# Altium schematic symbol library Basic-Logic-Gates-Schlib.SchLib: 7 symbols
Pins are listed as number, name and electrical type; pins without a type are passive.

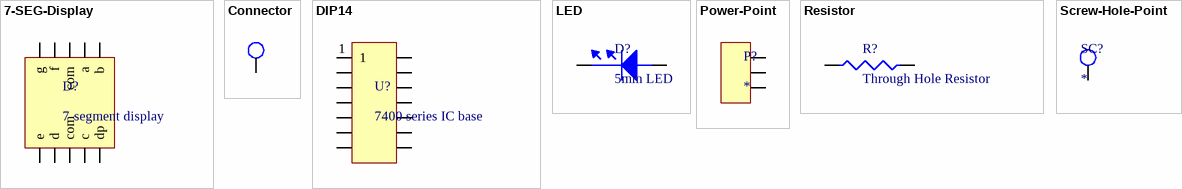
[diagram p0: symbols 7-SEG-Display to Screw-Hole-Point]

## 7-SEG-Display
designator D?, comment 7-segment display
footprint 7-SEG-DISPLAY
pins: 1 e, 2 d, 3 com, 4 c, 5 dp, 6 b, 7 a, 8 com, 9 f, 10 g

## Connector
designator J?, comment Jack  (value not drawn)
Jack Connector (Jumper)
footprint Connector (Point to place the jack)
pins: 1

## DIP14
designator U?, comment 7400 series IC base
footprint DIP14
pins: 1, 2, 3, 4, 5, 6, 7, 8, 9, 10, 11, 12, 13, 14

## LED
designator D?, comment 5mm LED
footprint LED
pins: 1, 2

## Power-Point
designator P?
Power supply from encloser connection point
footprint Power-Point
pins: 1 VCC, 2 GND, 3 GND

## Resistor
designator R?, comment Through Hole Resistor
footprint TH-Resistor
pins: 1, 2

## Screw-Hole-Point
designator SC?
footprint Screw-Hole-Point
pins: 1